# Altium schematic symbol library IS-EVB-2.SchLib: 2 symbols
Pins are listed as number, name and electrical type; pins without a type are passive.

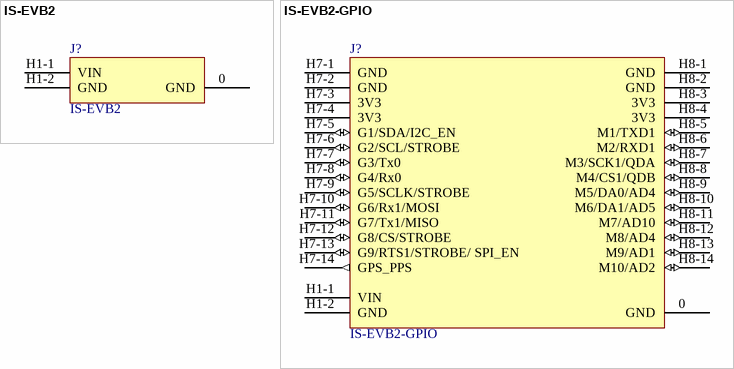
[diagram p0: symbols IS-EVB2 to IS-EVB2-GPIO]

## IS-EVB2
designator J?
Inertial Sense EVB 2.x
footprint EVB-2_1 (EVB 2 Footprint)
pins: 0 GND (power), H1-1 VIN (power), H1-2 GND (power)

## IS-EVB2-GPIO
designator J?
Inertial Sense EVB 2.x with GPIO connections
footprint EVB-2_1-GPIO (EVB 2.0 Footprint with GPIO headers)
pins: 0 GND (power), H1-1 VIN (power), H1-2 GND (power), H7-1 GND (power), H7-2 GND (power), H7-3 3V3 (power), H7-4 3V3 (power), H7-5 G1/SDA/I2C_EN (io), H7-6 G2/SCL/STROBE (io), H7-7 G3/Tx0 (io), H7-8 G4/Rx0 (io), H7-9 G5/SCLK/STROBE (io), H7-10 G6/Rx1/MOSI (io), H7-11 G7/Tx1/MISO (io), H7-12 G8/CS/STROBE (io), H7-13 G9/RTS1/STROBE/ SPI_EN (io), H7-14 GPS_PPS (out), H8-1 GND (power), H8-2 GND (power), H8-3 3V3 (power), H8-4 3V3 (power), H8-5 M1/TXD1 (io), H8-6 M2/RXD1 (io), H8-7 M3/SCK1/QDA (io), H8-8 M4/CS1/QDB (io), H8-9 M5/DA0/AD4 (io), H8-10 M6/DA1/AD5 (io), H8-11 M7/AD10 (io), H8-12 M8/AD4 (io), H8-13 M9/AD1 (io), H8-14 M10/AD2 (io)